# Altium schematic symbol library FlexyPin.SchLib: 1 symbol
Pins are listed as number, name and electrical type; pins without a type are passive.

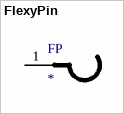
[diagram p0: symbol FlexyPin]

## FlexyPin
designator FP
footprint FlexyPin
pins: 1